# Altium schematic symbol library c3_SchLib.SchLib: 363 symbols (part 3 of 3)
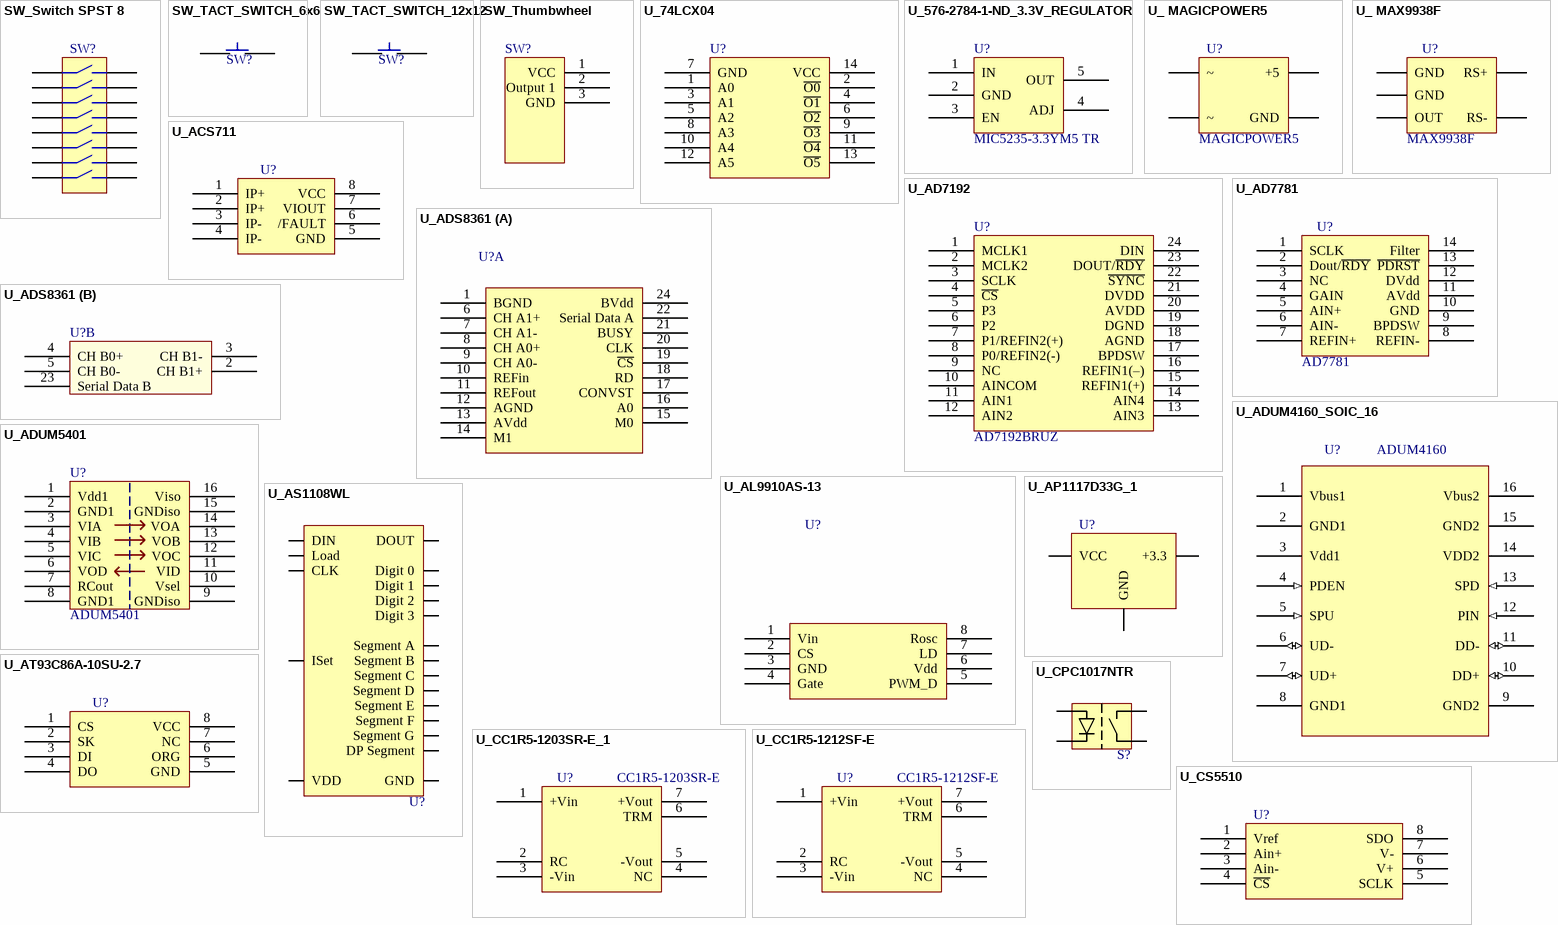
[diagram p13: symbols SW_Switch SPST 8 to U_CS5510]

## U_576-2784-1-ND_3.3V_REGULATOR
designator U?, comment Manufacturer PN: MIC5235-3.3YM5 TR  (hidden comment: IC REG LDO 150MA 3.3V SOT23-5)
Manufacturer: Micrel Inc; SVP Creator: Brittany Pentek; Package: SOT-23-5; Known Distributors: Digi-Key; Price: $1.02; HelpURL: http://search.digikey.com/scripts/DkSearch/dksus.dll?Detail&name=576-2784-1-ND; ComponentLink1URL: http://search.digikey.com/scripts/DkSearch/dksus.dll?Detail&name=576-2784-1-ND; ComponentLink1Description: Datasheet
footprint 576-2784-1-ND (SOT23, 5-Leads, Body 3.0x3.0mm (max), Pitch 0.95mm, IPC Medium Density)
pins: 1 IN, 2 GND, 3 EN, 4 ADJ, 5 OUT

## U_ MAGICPOWER5
designator U?  value MAGICPOWER5  (hidden comment: U_ MAGICPOWER5)
AC to 5V; Known Distributors: Shop; ComponentLink1Description: Datasheet
pins: 1 ~ (power), 2 ~ (power), 3 GND, 4 +5

## U_ MAX9938F
designator U?  value MAX9938F  (hidden comment: U_ MAX9938F)
IC AMP CURRENT SENSE SOT23-5; Manufacturer: Maxim; Manufacturer PN: MAX9938FEUK+T; Gain: 50; Package: SOT23; Known Distributors: Digikey; ComponentLink1Description: Datasheet
footprint SOT95P280X145-5N (SOT23, 5-Leads, Body 3.0x3.0mm (max), Pitch 0.95mm, IPC Medium Density)
pins: 1 GND, 2 GND, 3 OUT, 4 RS-, 5 RS+

## U_ACS711
designator U?, comment Lights board current sensor  (value not drawn)
SENSOR CURRENT 25A 3.3V 8-SOIC; Manufacturer: Allegro Microsystems Inc; Manufacturer PN: ACS711ELCTR-25AB-T; SVP Creator: Thomas Daede; Package: SOIC-8; ComponentLink1Description: Datasheet; ComponentLink1URL: http://www.allegromicro.com/en/Products/Part_Numbers/0711/0711.pdf; Price: 2.91
footprint SOIC127P600X175-8N (SOIC, 8-Leads, Body 4.9x3.9mm (max), Pitch 1.27mm, IPC Medium Density)
pins: 1 IP+, 2 IP+, 3 IP-, 4 IP-, 5 GND, 6 /FAULT, 7 VIOUT, 8 VCC

## U_AD7192
designator U?  Manufacturer PN: AD7192BRUZ  (hidden comment: *)
IC ADC 24BIT 2CH W/PGA 24-TSSOP; Manufacturer: Analog Devices
footprint TSOP65P640X120-24N (TSOP, 24-Leads, Body 7.9x4.5mm (max), Pitch 0.65mm, IPC Medium Density)
pins: 1 MCLK1, 2 MCLK2, 3 SCLK, 4 ~{CS}, 5 P3, 6 P2, 7 P1/REFIN2(+), 8 P0/REFIN2(-), 9 NC, 10 AINCOM, 11 AIN1, 12 AIN2, 13 AIN3, 14 AIN4, 15 REFIN1(+), 16 REFIN1(–), 17 BPDSW, 18 AGND, 19 DGND, 20 AVDD, 21 DVDD, 22 ~{SYNC}, 23 DOUT/~{RDY}, 24 DIN

## U_AD7781
designator U?, comment AD7781
IC ADC 20BIT 1CH LP SD 14SOIC; Manufacturer: Analog Devices; Manufacturer PN: AD7781BRZ; SVP Creator: Katie Moenkhaus; Package: SOIC-14; Known Distributors: Digikey; ComponentLink1Description: Datasheet; ComponentLink1URL: http://www.analog.com/static/imported-files/data_sheets/AD7781.pdf; Price: 5.35; Value: AD7781
footprint AD7781
pins: 1 SCLK, 2 Dout/~{RDY}, 3 NC, 4 GAIN, 5 AIN+, 6 AIN-, 7 REFIN+, 8 REFIN-, 9 BPDSW, 10 GND, 11 AVdd, 12 DVdd, 13 ~{PDRST}, 14 Filter

## U_ADS8361
designator U?
IC ADC DUAL 16BIT 500KSPS 24QSOP; Manufacturer: Texas Instruments; Manufacturer PN: ADS8361; SVP Creator: Katie Moenkhaus; Package: SSOP-24; ComponentLink1Description: Datasheet; ComponentLink1URL: http://www.ti.com/lit/ds/symlink/ads8361.pdf; Price: 0
footprint SOP63P600X175-24N (SOP, 24-Leads, Body 8.8x4.0mm (max), Pitch 0.63mm, IPC Medium Density)
part A pins: 1 BGND, 6 CH A1+, 7 CH A1-, 8 CH A0+, 9 CH A0-, 10 REFin, 11 REFout, 12 AGND, 13 AVdd, 14 M1, 15 M0, 16 A0, 17 CONVST, 18 RD, 19 ~{CS}, 20 CLK, 21 BUSY, 22 Serial Data A, 24 BVdd
part B pins: 2 CH B1+, 3 CH B1-, 4 CH B0+, 5 CH B0-, 23 Serial Data B

## U_ADUM4160_SOIC_16
designator U?, comment Manufacturer PN: ADUM4160  (hidden comment: Short Part Description)
IC USB ISOLATOR FULL/LOW 16SOIC; Manufacturer: Analog Devices; SVP Creator: Brett Paulsen; Package: 16 SOIC_W; Known Distributors: Digikey; Data sheet link: http://www.analog.com/static/imported-files/data_sheets/ADuM4160.pdf; Web SVN link: http://umnsvp.dyndns.org/websvn/filedetails.php?repname=centaurus3&path=%2Fdatasheets%2FUSB+Isolator%2FADUM4160.PDF; Price: 9.78
footprint SOIC_W 16 lead RW-16 (SOIC, 16-Leads, Body 10.5x7.6mm (max), Pitch 1.27mm, IPC Medium Density)
pins: 1 Vbus1 (power), 2 GND1, 3 Vdd1 (power), 4 PDEN (in), 5 SPU (in), 6 UD- (io), 7 UD+ (io), 8 GND1, 9 GND2, 10 DD+ (io), 11 DD- (io), 12 PIN (in), 13 SPD (in), 14 VDD2 (power), 15 GND2, 16 Vbus2 (power)

## U_ADUM5401
designator U?  value ADUM5401
IC ISOLATOR 4CH DCDC CONV 16SOIC; Manufacturer: Analog Devices; Manufacturer PN: ADUM5401CRWZ; SVP Creator: Katie Moenkhaus; Package: SOIC_W-16; Known Distributors: DigiKey; ComponentLink1URL: http://www.analog.com/static/imported-files/data_sheets/ADuM5401_5402_5403_5404.pdf; ComponentLink1Description: Datasheet
footprint SOIC_W-16
pins: 1 Vdd1, 2 GND1, 3 VIA, 4 VIB, 5 VIC, 6 VOD, 7 RCout, 8 GND1, 9 GNDiso, 10 Vsel, 11 VID, 12 VOC, 13 VOB, 14 VOA, 15 GNDiso, 16 Viso

## U_AL9910AS-13
designator U?, comment AL9910AS-13  (value not drawn)
IC LED DRVR HIGH BRIGHT SO8EP; Manufacturer: Diodes Inc; SVP Creator: Thomas Daede; Package: 8-SOIC; Manufacturer PN: AL9910AS-13; ComponentLink1Description: Datasheet; ComponentLink1URL: SVN Datasheet URL; Price: 1.90
footprint SOIC127P600X175-8N (SOIC, 8-Leads, Body 4.9x3.9mm (max), Pitch 1.27mm, IPC Medium Density)
pins: 1 Vin, 2 CS, 3 GND, 4 Gate, 5 PWM_D, 6 Vdd, 7 LD, 8 Rosc

## U_AP1117D33G_1
designator U?, comment MC7805BDTG  (value not drawn)
IC REG LDO BIPO 1A 3.3V TO252-3; Manufacturer: Diodes Inc; Manufacturer PN: AP1117D33G-13; SVP Creator: Thomas Daede; Known Distributors: Digikey; ComponentLink1Description: Datasheet; ComponentLink1URL: SVN Datasheet URL; Price: 0.63
footprint DPAK
pins: 1 +3.3, 2 VCC, 3 GND

## U_AS1108WL
designator U?, comment 7-Segment Driver  (value not drawn)
IC LED 4-DIGIT DRIVER 20-SOIC; Manufacturer: austriamicrosystems; Manufacturer PN: AS1108WL; SVP Creator: Matt Crane; Package: 20-SOIC; Known Distributors: Digikey; ComponentLink1Description: Datasheet; ComponentLink1URL: http://umnsvp.dyndns.org/svn/centaurus3/Hardware/datasheets/Driver Interface/AS1108_Datasheet_v2_12.pdf; Price: 5.18
footprint AS1108; pin to pad 4>4+7
pins: 1 DOUT, 2 DIN, 3 Digit 0, 4 GND, 5 Digit 1, 6 Digit 2, 8 Digit 3, 9 Load, 10 CLK, 11 Segment A, 12 Segment B, 13 Segment C, 14 Segment D, 15 ISet, 16 VDD, 17 Segment E, 18 Segment F, 19 Segment G, 20 DP Segment

## U_AT93C86A-10SU-2.7
designator U?, comment AT93C86A-10SU-2.7  (value not drawn)
IC EEPROM 16KBIT 2MHZ 8SOIC; Manufacturer: Atmel; Package: SOIC-8; Manufacturer PN: AT93C86A-10SU-2.7
footprint SOIC127P600X175-8N (SOIC, 8-Leads, Body 4.9x3.9mm (max), Pitch 1.27mm, IPC Medium Density)
pins: 1 CS, 2 SK, 3 DI, 4 DO, 5 GND, 6 ORG, 7 NC, 8 VCC

## U_CC1R5-1203SR-E_1
designator U?, comment Manufacturer PN: CC1R5-1203SR-E  (hidden comment: Short Part Description)
CONV DC/DC 1.5W SNG 12V 3.3V SMD; Manufacturer: TKD-Lambda; Package: TSOT23-6; Known Distributors: Digikey; ComponentLink1Description: Datasheet; ComponentLink1URL: SVN Datasheet URL; Price: 9.12
footprint CC1R5-1203SR-E
pins: 1 +Vin, 2 RC, 3 -Vin, 4 NC, 5 -Vout, 6 TRM, 7 +Vout

## U_CC1R5-1212SF-E
designator U?, comment Manufacturer PN: CC1R5-1212SF-E  (hidden comment: Short Part Description)
CONV DC/DC 1.5W SNGL 12V 12V PCB; Manufacturer: TKD-Lambda; SVP Creator: Thomas Daede; Known Distributors: Digikey; ComponentLink1Description: Datasheet; ComponentLink1URL: SVN Datasheet URL; Price: 11.26
footprint CC1R5-1212SF-E
pins: 1 +Vin, 2 RC, 3 -Vin, 4 NC, 5 -Vout, 6 TRM, 7 +Vout

## U_CPC1017NTR
designator S?, comment CPC1017NTR  (value not drawn)
PHOTOCPLR RELAY MOSFET-OUT 4-SOP; Manufacturer: Clare; SVP Creator: Jonathan Nutzmann; Package: 4-SOP; Known Distributors: Digikey; Manufacturer PN: CPC1017NTR; Price: 1.14; ComponentLink1Description: Datasheet
footprint CPC1017NTR (SOP, 4-Leads, Body 4.3x3.9mm (max), Pitch 2.54mm, IPC Medium Density)
pins: 1, 2, 3, 4

## U_CS5510
designator U?, comment CS5510  (value not drawn)
IC ADC 16BIT EXTERNAL OSC 8-SOIC; Manufacturer: Cirrus Logic Inc; Manufacturer PN: CS5510-ASZ; SVP Creator: Katie Moenkhaus; Package: 8-SOIC; ComponentLink1Description: Datasheet; ComponentLink1URL: http://www.cirrus.com/en/pubs/proDatasheet/CS5510-11-12-13_F4.pdf
footprint CS5510
pins: 1 Vref, 2 Ain+, 3 Ain-, 4 ~{CS}, 5 SCLK, 6 V+, 7 V-, 8 SDO

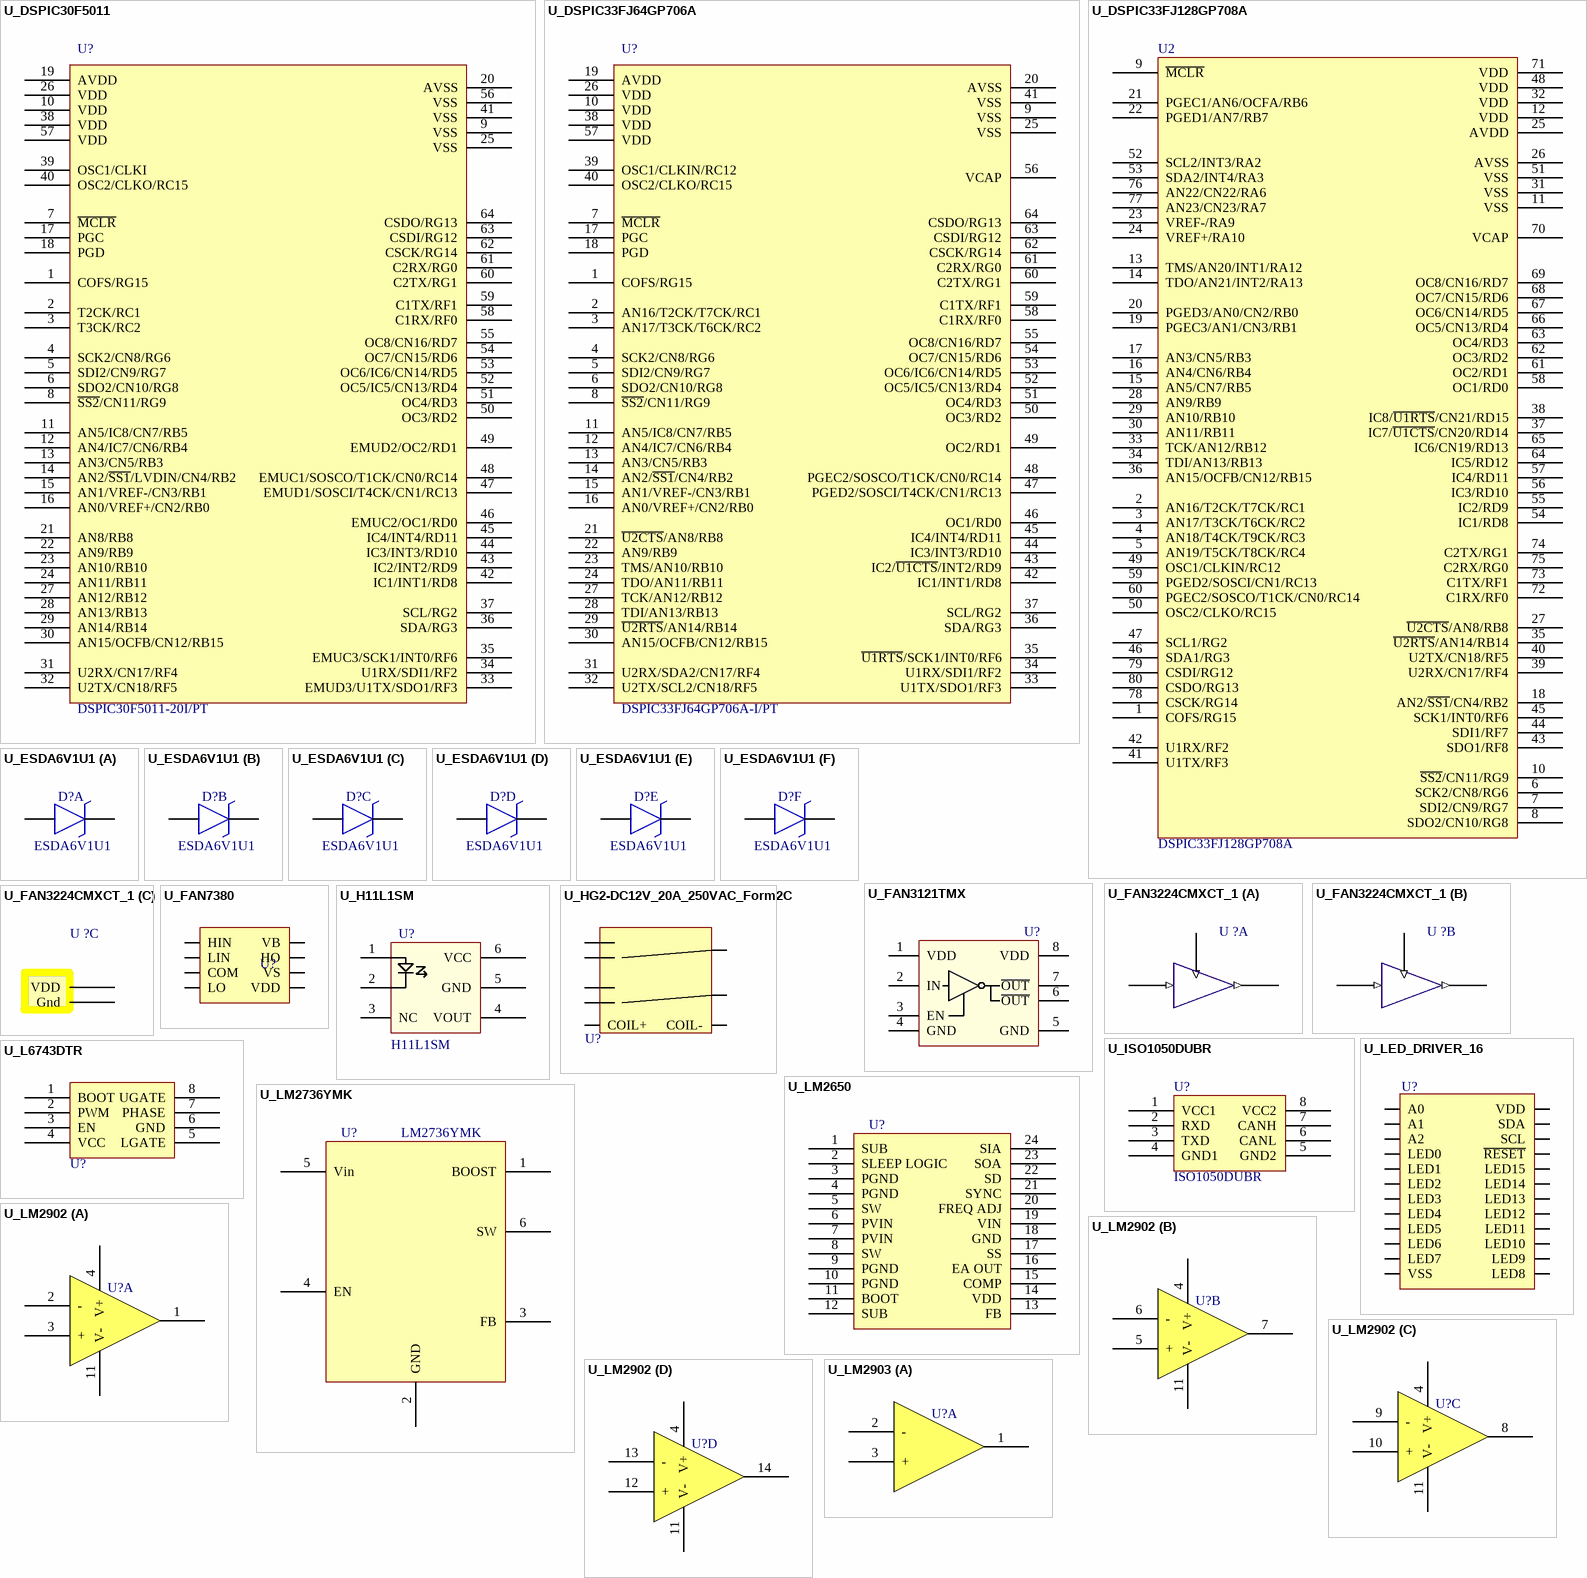
[diagram p8: symbols U_DSPIC30F5011 to U_LM2903]

## U_DSPIC30F5011
designator U?, comment Manufacturer PN: DSPIC30F5011-20I/PT  (hidden comment: DSPIC30F5011)
IC DSPIC MCU/DSP 66K 64TQFP; Manufacturer: Microchip; SVP Creator: Jonathan Nutzmann; Package: 64-TQFP; Known Distributors: Digikey; ComponentLink1Description: Datasheet; ComponentLink1URL: SVN Datasheet URL; Price: 8.74
footprint TSQFP50P1200X1200X120-64N (TSQFP, 64-Leads, Body 12.0x12.0mm (max), Pitch 0.50mm, IPC Medium Density)
pins: 1 COFS/RG15, 2 T2CK/RC1, 3 T3CK/RC2, 4 SCK2/CN8/RG6, 5 SDI2/CN9/RG7, 6 SDO2/CN10/RG8, 7 ~{MCLR}, 8 ~{SS2}/CN11/RG9, 9 VSS, 10 VDD, 11 AN5/IC8/CN7/RB5, 12 AN4/IC7/CN6/RB4, 13 AN3/CN5/RB3, 14 AN2/~{SS1}/LVDIN/CN4/RB2, 15 AN1/VREF-/CN3/RB1, 16 AN0/VREF+/CN2/RB0, 17 PGC, 18 PGD, 19 AVDD, 20 AVSS, 21 AN8/RB8, 22 AN9/RB9, 23 AN10/RB10, 24 AN11/RB11, 25 VSS, 26 VDD, 27 AN12/RB12, 28 AN13/RB13, 29 AN14/RB14, 30 AN15/OCFB/CN12/RB15, 31 U2RX/CN17/RF4, 32 U2TX/CN18/RF5, 33 EMUD3/U1TX/SDO1/RF3, 34 U1RX/SDI1/RF2, 35 EMUC3/SCK1/INT0/RF6, 36 SDA/RG3, 37 SCL/RG2, 38 VDD, 39 OSC1/CLKI, 40 OSC2/CLKO/RC15, 41 VSS, 42 IC1/INT1/RD8, 43 IC2/INT2/RD9, 44 IC3/INT3/RD10, 45 IC4/INT4/RD11, 46 EMUC2/OC1/RD0, 47 EMUD1/SOSCI/T4CK/CN1/RC13, 48 EMUC1/SOSCO/T1CK/CN0/RC14, 49 EMUD2/OC2/RD1, 50 OC3/RD2, 51 OC4/RD3, 52 OC5/IC5/CN13/RD4, 53 OC6/IC6/CN14/RD5, 54 OC7/CN15/RD6, 55 OC8/CN16/RD7, 56 VSS, 57 VDD, 58 C1RX/RF0, 59 C1TX/RF1, 60 C2TX/RG1, 61 C2RX/RG0, 62 CSCK/RG14, 63 CSDI/RG12, 64 CSDO/RG13

## U_DSPIC33FJ64GP706A
designator U?, comment Manufacturer PN: DSPIC33FJ64GP706A-I/PT  (hidden comment: DSPIC33FJ64GP706A)
IC DSPIC MCU/DSP 64K 64-TQFP; Manufacturer: Microchip; SVP Creator: Jonathan Nutzmann; Package: 64-TQFP; Known Distributors: Digikey; ComponentLink1Description: Datasheet; ComponentLink1URL: SVN Datasheet URL; Price: 7.26
footprint TSQFP50P1200X1200X120-64N (TSQFP, 64-Leads, Body 12.0x12.0mm (max), Pitch 0.50mm, IPC Medium Density)
pins: 1 COFS/RG15, 2 AN16/T2CK/T7CK/RC1, 3 AN17/T3CK/T6CK/RC2, 4 SCK2/CN8/RG6, 5 SDI2/CN9/RG7, 6 SDO2/CN10/RG8, 7 ~{MCLR}, 8 ~{SS2}/CN11/RG9, 9 VSS, 10 VDD, 11 AN5/IC8/CN7/RB5, 12 AN4/IC7/CN6/RB4, 13 AN3/CN5/RB3, 14 AN2/~{SS1}/CN4/RB2, 15 AN1/VREF-/CN3/RB1, 16 AN0/VREF+/CN2/RB0, 17 PGC, 18 PGD, 19 AVDD, 20 AVSS, 21 ~{U2CTS}/AN8/RB8, 22 AN9/RB9, 23 TMS/AN10/RB10, 24 TDO/AN11/RB11, 25 VSS, 26 VDD, 27 TCK/AN12/RB12, 28 TDI/AN13/RB13, 29 ~{U2RTS}/AN14/RB14, 30 AN15/OCFB/CN12/RB15, 31 U2RX/SDA2/CN17/RF4, 32 U2TX/SCL2/CN18/RF5, 33 U1TX/SDO1/RF3, 34 U1RX/SDI1/RF2, 35 ~{U1RTS}/SCK1/INT0/RF6, 36 SDA/RG3, 37 SCL/RG2, 38 VDD, 39 OSC1/CLKIN/RC12, 40 OSC2/CLKO/RC15, 41 VSS, 42 IC1/INT1/RD8, 43 IC2/~{U1CTS}/INT2/RD9, 44 IC3/INT3/RD10, 45 IC4/INT4/RD11, 46 OC1/RD0, 47 PGED2/SOSCI/T4CK/CN1/RC13, 48 PGEC2/SOSCO/T1CK/CN0/RC14, 49 OC2/RD1, 50 OC3/RD2, 51 OC4/RD3, 52 OC5/IC5/CN13/RD4, 53 OC6/IC6/CN14/RD5, 54 OC7/CN15/RD6, 55 OC8/CN16/RD7, 56 VCAP, 57 VDD, 58 C1RX/RF0, 59 C1TX/RF1, 60 C2TX/RG1, 61 C2RX/RG0, 62 CSCK/RG14, 63 CSDI/RG12, 64 CSDO/RG13

## U_DSPIC33FJ128GP708A
designator U2, comment DSPIC33FJ128GP708A
IC DSPIC MCU/DSP 128K 80-TQFP; Manufacturer: Microchip; SVP Creator: Jonathan Nutzmann; Package: 80-TQFP; Known Distributors: Digikey; ComponentLink1Description: Datasheet; ComponentLink1URL: SVN Datasheet URL
footprint dspic33-tqfp80 (TSQFP, 80-Leads, Body 14.0x14.0mm (max), Pitch 0.50mm, IPC Medium Density)
pins: 1 COFS/RG15, 2 AN16/T2CK/T7CK/RC1, 3 AN17/T3CK/T6CK/RC2, 4 AN18/T4CK/T9CK/RC3, 5 AN19/T5CK/T8CK/RC4, 6 SCK2/CN8/RG6, 7 SDI2/CN9/RG7, 8 SDO2/CN10/RG8, 9 ~{MCLR}, 10 ~{SS2}/CN11/RG9, 11 VSS, 12 VDD, 13 TMS/AN20/INT1/RA12, 14 TDO/AN21/INT2/RA13, 15 AN5/CN7/RB5, 16 AN4/CN6/RB4, 17 AN3/CN5/RB3, 18 AN2/~{SS1}/CN4/RB2, 19 PGEC3/AN1/CN3/RB1, 20 PGED3/AN0/CN2/RB0, 21 PGEC1/AN6/OCFA/RB6, 22 PGED1/AN7/RB7, 23 VREF-/RA9, 24 VREF+/RA10, 25 AVDD, 26 AVSS, 27 ~{U2CTS}/AN8/RB8, 28 AN9/RB9, 29 AN10/RB10, 30 AN11/RB11, 31 VSS, 32 VDD, 33 TCK/AN12/RB12, 34 TDI/AN13/RB13, 35 ~{U2RTS}/AN14/RB14, 36 AN15/OCFB/CN12/RB15, 37 IC7/~{U1CTS}/CN20/RD14, 38 IC8/~{U1RTS}/CN21/RD15, 39 U2RX/CN17/RF4, 40 U2TX/CN18/RF5, 41 U1TX/RF3, 42 U1RX/RF2, 43 SDO1/RF8, 44 SDI1/RF7, 45 SCK1/INT0/RF6, 46 SDA1/RG3, 47 SCL1/RG2, 48 VDD, 49 OSC1/CLKIN/RC12, 50 OSC2/CLKO/RC15, 51 VSS, 52 SCL2/INT3/RA2, 53 SDA2/INT4/RA3, 54 IC1/RD8, 55 IC2/RD9, 56 IC3/RD10, 57 IC4/RD11, 58 OC1/RD0, 59 PGED2/SOSCI/CN1/RC13, 60 PGEC2/SOSCO/T1CK/CN0/RC14, 61 OC2/RD1, 62 OC3/RD2, 63 OC4/RD3, 64 IC5/RD12, 65 IC6/CN19/RD13, 66 OC5/CN13/RD4, 67 OC6/CN14/RD5, 68 OC7/CN15/RD6, 69 OC8/CN16/RD7, 70 VCAP, 71 VDD, 72 C1RX/RF0, 73 C1TX/RF1, 74 C2TX/RG1, 75 C2RX/RG0, 76 AN22/CN22/RA6, 77 AN23/CN23/RA7, 78 CSCK/RG14, 79 CSDI/RG12, 80 CSDO/RG13

## U_ESDA6V1U1
designator D?  Part Number: ESDA6V1U1  (hidden comment: U_ESDA6V1U1)
IC TVS ARRAY ESD UNIDIR 8-SOIC
footprint ESDA6V1U1 (SOP, 8-Leads, Body 5.0x4.0mm (max), Pitch 1.27mm, IPC Medium Density)
part A pins: 1, 6
part B pins: 2, 6
part C pins: 3, 6
part D pins: 4, 6
part E pins: 5, 6
part F pins: 6, 8

## U_FAN3121TMX
designator U?, comment FAN3121TMX  (value not drawn)
IC GATE DVR SGL 9A HS INV 8-SOIC; Manufacturer: Fairchild; SVP Creator: Jonathan Nutzmann; Package: 8 SOIC; Known Distributors: Digikey; Manufacturer PN: FAN3121TMX; Price: 2.38; ComponentLink1Description: Datasheet
footprint SOIC127P600X175-8N (SOIC, 8-Leads, Body 4.9x3.9mm (max), Pitch 1.27mm, IPC Medium Density)
pins: 1 VDD, 2 IN, 3 EN, 4 GND, 5 GND, 6 ~{OUT}, 7 ~{OUT}, 8 VDD

## U_FAN3224CMXCT_1
designator U ?, comment U_FAN3224CMXCT  (value not drawn)
IC GATE DVR LOSIDE DUAL 4A 8SOIC; Manufacturer: Fairchild; Manufacturer PN: FAN3224CMXCT-ND; SVP Creator: Evan Sundry; Package: 8 SOIC; Known Distributors: Digikey; Price: 1.93; HelpURL: http://umnsvp.dyndns.org/svn/centaurus2/datasheets/; ComponentLink1URL: http://umnsvp.dyndns.org/svn/centaurus2/datasheets/; ComponentLink1Description: Datasheet
footprint SOIC127P600X175-8N (NIS5112) (SOIC, 8-Leads, Body 5.0x4.0mm (max), Pitch 1.27mm, IPC Medium Density)
part A pins: 1 EN A (in), 2 IN A (in), 7 Out A (out)
part B pins: 4 IN B (in), 5 Out b (out), 8 EN B (in)
part C pins: 3 Gnd (power), 6 VDD (power)

## U_FAN7380
designator U?, comment Gate Driver  (value not drawn)
IC DRIVER GATE HALF BRIDGE 8-SOP; Manufacturer: Fairchild Semiconductor; Manufacturer PN: FAN7380; SVP Creator: Chad Furey; Package: 8-SOIC; Known Distributors: Digikey; ComponentLink1Description: Datasheet; ComponentLink1URL: http://www.fairchildsemi.com/ds/FA%2FFAN7380.pdf; HelpURL: http://www.fairchildsemi.com/ds/FA%2FFAN7380.pdf; Price: 1.88
footprint FAN7380
pins: 1 LIN, 2 HIN, 3 VDD, 4 COM, 5 LO, 6 VS, 7 HO, 8 VB

## U_H11L1SM
designator U?, comment H11L1SM
OPTOCOUPLER LOGIC OUT 6-SMD; SVP Creator: Jonathan Nutzmann; Datasheet: http://www.fairchildsemi.com/ds/H1/H11L1-M.pdf
footprint H11L1SM
pins: 1 ANODE, 2 CATHODE, 3 NC, 4 VOUT, 5 GND, 6 VCC

## U_HG2-DC12V_20A_250VAC_Form2C
designator U?, comment Short Part Description  (value not drawn)
HG2-DC12V 20A POWER RELAY; Manufacturer: Panasonic; SVP Creator: Brittany Pentek; Package: 5-PIN; Known Distributors: Ax-Man; Manufacturer PN: HG2-DC12V; ComponentLink1Description: http://pewa.panasonic.com/assets/pcsd/catalog/hg-catalog.pdf; ComponentLink1URL: SVN Datasheet URL; HelpURL: http://www.onlinecomponents.com/panasonic-ew-aromat_hg2-dc12v-f.html?p=10555595; Price: $5.45
pins: 1 1NC, 2 1NO, 3 2NC, 4 2NO, 5 1OUT, 6 2OUT, 7 COIL+, 8 COIL-

## U_ISO1050DUBR
designator U?  Manufacturer PN: ISO1050DUBR  (hidden comment: U_ISO1050DUBR)
IC TXRX CAN 5V 8SOP; Manufacturer: Texas Insturments; SVP Creator: Jonathan Nutzmann; Package: 8SOP; ComponentLink1Description: Datasheet
footprint 8SOP
pins: 1 VCC1, 2 RXD, 3 TXD, 4 GND1, 5 GND2, 6 CANL, 7 CANH, 8 VCC2

## U_L6743DTR
designator U?, comment IC MOSFET DRIVER DUAL 8SOIC  (value not drawn)
Manufacturer: STMicroelectronics; Manufacturer PN: L6743DTR; SVP Creator: Thomas Daede; Package: SOIC-8; Known Distributors: 497-8496-1-ND; ComponentLink1Description: Datasheet; ComponentLink1URL: SVN Datasheet URL; Price: 1.8
footprint SOIC127P600X175-8N (SOIC, 8-Leads, Body 4.9x3.9mm (max), Pitch 1.27mm, IPC Medium Density)
pins: 1 BOOT, 2 PWM, 3 EN, 4 VCC, 5 LGATE, 6 GND, 7 PHASE, 8 UGATE

## U_LED_DRIVER_16
designator U?, comment 16 LED Driver  (value not drawn)
IC LED DRIVER BLINKER 24-SOIC; Manufacturer: NXP Semiconductors; Manufacturer PN: PCA9552D,112; SVP Creator: Matt Crane; Package: 24-SOIC (0.295", 7.50mm Width); Known Distributors: Digikey; ComponentLink1Description: Datasheet; ComponentLink1URL: http://www.nxp.com/documents/data_sheet/PCA9552.pdf; Price: 2.67
footprint SOIC127P1030X265-24N (SOIC, 24-Leads, Body 15.6x7.6mm (max), Pitch 1.27mm, IPC Medium Density)
pins: 1 A0, 2 A1, 3 A2, 4 LED0, 5 LED1, 6 LED2, 7 LED3, 8 LED4, 9 LED5, 10 LED6, 11 LED7, 12 VSS, 13 LED8, 14 LED9, 15 LED10, 16 LED11, 17 LED12, 18 LED13, 19 LED14, 20 LED15, 21 ~{RESET}, 22 SCL, 23 SDA, 24 VDD

## U_LM2650
designator U?, comment LM2650 DC/DC Converter  (value not drawn)
IC CONVERTER SYNCH DC/DC 24-SOIC; Manufacturer: National Semiconductor; SVP Creator: Jonathan Nutzmann; Package: SOIC-24; Manufacturer PN: LM2650; ComponentLink1Description: Datasheet; ComponentLink1URL: SVN Datasheet URL; Price: 0
footprint SOIC127P1030X265-24N (SOIC, 24-Leads, Body 15.6x7.6mm (max), Pitch 1.27mm, IPC Medium Density)
pins: 1 SUB, 2 SLEEP LOGIC, 3 PGND, 4 PGND, 5 SW, 6 PVIN, 7 PVIN, 8 SW, 9 PGND, 10 PGND, 11 BOOT, 12 SUB, 13 FB, 14 VDD, 15 COMP, 16 EA OUT, 17 SS, 18 GND, 19 VIN, 20 FREQ ADJ, 21 SYNC, 22 SD, 23 SOA, 24 SIA

## U_LM2736YMK
designator U?, comment Manufacturer PN: LM2736YMK  (hidden comment: Short Part Description)
IC REG PWM STPDWN 750 mA; Manufacturer: National Semiconductor (TI?); SVP Creator: Brett Paulsen; SVP Reviewer 1: Arlo Siemsen; Package: TSOT23-6; Known Distributors: Digikey; ComponentLink1Description: Datasheet; ComponentLink1URL: SVN Datasheet URL; Price: FREE
footprint TSOT95P285X100-6M (TSOT23, 6-Leads, Body 3.1x2.8mm (max), Pitch 0.95mm, IPC Low Density)
pins: 1 BOOST, 2 GND, 3 FB, 4 EN, 5 Vin, 6 SW

## U_LM2902
designator U?  (value not drawn)
IC OP AMP QUAD LOW POWER 14-SOIC; Manufacturer: ST Microelectronics; Manufacturer PN: LM2902DT; SVP Creator: sam kelley / Thomas Daede; Package: 14-SOIC; Known Distributors: digikey; Price: $1.20; HelpURL: http://umnsvp.dyndns.org/svn/centaurus2/datasheets/Telemetry/LM2902.pdf; ComponentLink1URL: http://umnsvp.dyndns.org/svn/centaurus2/datasheets/Telemetry/LM2902.pdf; ComponentLink1Description: Datasheet
footprint SOIC127P600X175-14N (SOIC, 14-Leads, Body 8.8x4.0mm (max), Pitch 1.27mm, IPC Medium Density)
part A pins: 1, 2 -, 3 +, 4 V+, 11 V-
part B pins: 4 V+, 5 +, 6 -, 7, 11 V-
part C pins: 4 V+, 8, 9 -, 10 +, 11 V-
part D pins: 4 V+, 11 V-, 12 +, 13 -, 14

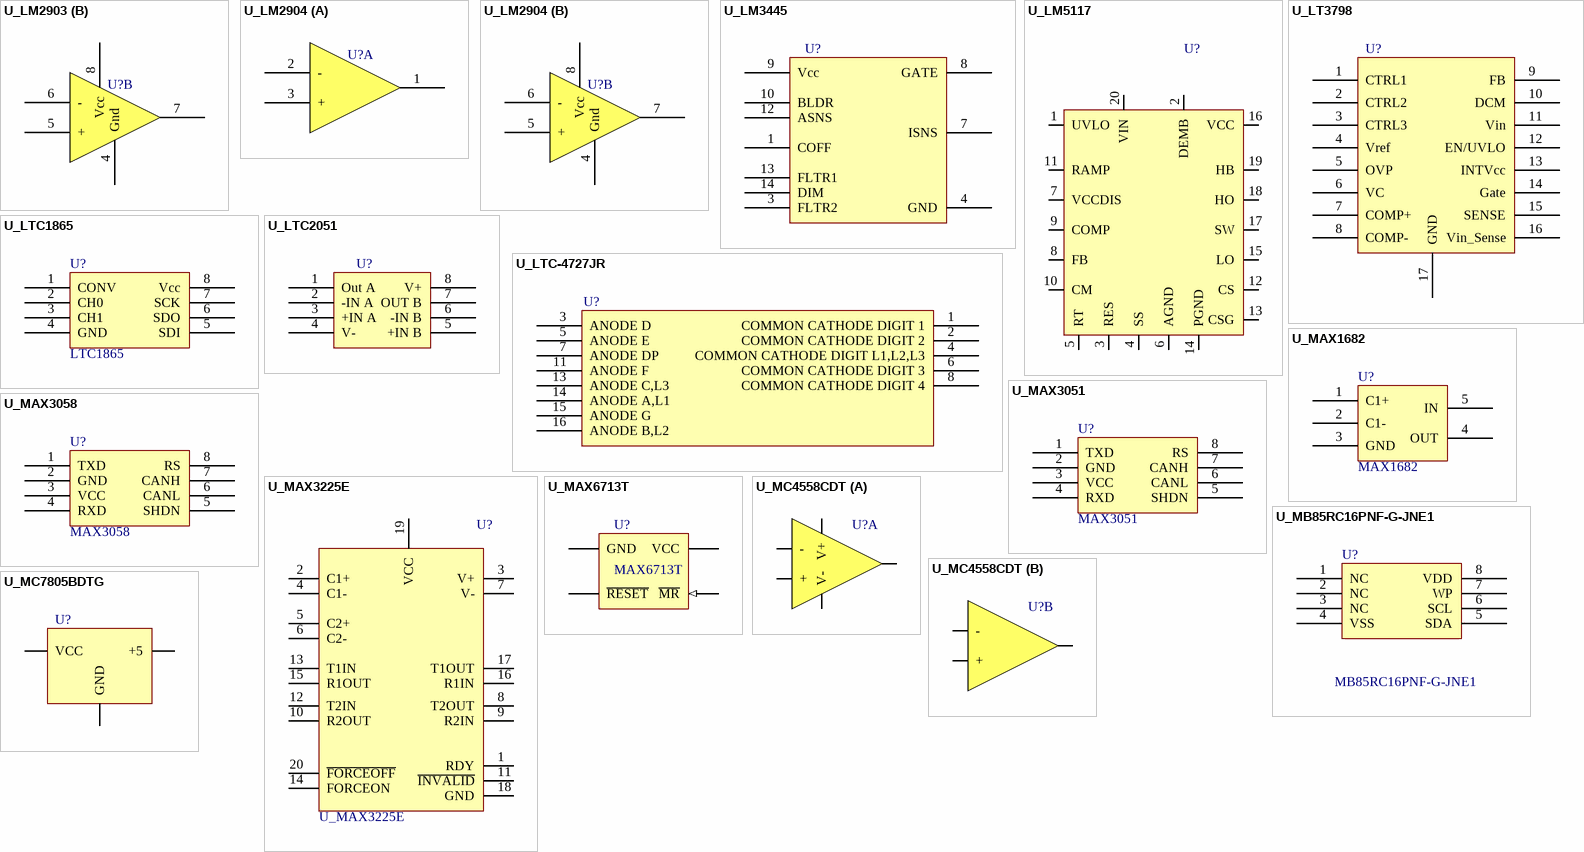
[diagram p9: symbols U_LM2903 to U_MC7805BDTG]

## U_LM2903
designator U?  (value not drawn)
IC COMPARATOR DUAL DIFF 8-SOP; Manufacturer: Fairchild Semiconductor; Manufacturer PN: LM2903MX; SVP Creator: Thomas Daede; Package: 8-SOIC; Known Distributors: digikey; Price: 0.56; ComponentLink1Description: Datasheet
footprint SOIC127P600X175-8N (SOIC, 8-Leads, Body 4.9x3.9mm (max), Pitch 1.27mm, IPC Medium Density)
part A pins: 1, 2 -, 3 +
part B pins: 4 Gnd, 5 +, 6 -, 7, 8 Vcc

## U_LM2904
designator U?  (value not drawn)
IC OPAMP DUAL -40-85 C 8-SOIC; Manufacturer: Fairchild Semiconductor; Manufacturer PN: LM2904M; SVP Creator: Thomas Daede; Package: 8-SOIC; Known Distributors: digikey; Price: 0.45; ComponentLink1Description: Datasheet
footprint SOIC127P600X175-8N (SOIC, 8-Leads, Body 4.9x3.9mm (max), Pitch 1.27mm, IPC Medium Density)
part A pins: 1, 2 -, 3 +
part B pins: 4 Gnd, 5 +, 6 -, 7, 8 Vcc

## U_LM3445
designator U?, comment LM3445  (value not drawn)
IC LED DRIVER TRIAC DIMM 14SOIC; Manufacturer: National Semiconductor; SVP Creator: Thomas Daede; Package: SOIC-14; Manufacturer PN: LM3445; ComponentLink1Description: Datasheet; ComponentLink1URL: SVN Datasheet URL; Price: 3.84
footprint SOIC127P600X175-14N (SOIC, 14-Leads, Body 8.8x4.0mm (max), Pitch 1.27mm, IPC Medium Density)
pins: 1 COFF, 3 FLTR2, 4 GND, 7 ISNS, 8 GATE, 9 Vcc, 10 BLDR, 12 ASNS, 13 FLTR1, 14 DIM

## U_LM5117
designator U?  (value not drawn)
IC PWM BUCK CM 20TSSOP; Manufacturer: National Semiconductor; Manufacturer PN: LM5117; SVP Creator: Matt Rogge; Current Rating: 12A; ComponentLink1Description: datasheet; Known Distributors: Digikey; Package: 20-TSSOP; Price: 5.71
footprint LM5117
pins: 1 UVLO, 2 DEMB, 3 RES, 4 SS, 5 RT, 6 AGND, 7 VCCDIS, 8 FB, 9 COMP, 10 CM, 11 RAMP, 12 CS, 13 CSG, 14 PGND, 15 LO, 16 VCC, 17 SW, 18 HO, 19 HB, 20 VIN

## U_LT3798
designator U?, comment LT3798  (value not drawn)
Isolated No Opto-Coupler Flyback Controller with Active PFC; Manufacturer: Linear; SVP Creator: Chad Furey; Package: MSOP-16; Known Distributors: ??; Manufacturer PN: LT3798; ComponentLink1Description: Datasheet; ComponentLink1URL: http://cds.linear.com/docs/Datasheet/3798p.pdf; Price: NA
footprint MSOP_16Lead_0.5mm_pitch (TSSOP, 16-Leads, Body 4.1x3.1mm (max), Pitch 0.50mm, IPC Medium Density)
pins: 1 CTRL1, 2 CTRL2, 3 CTRL3, 4 Vref, 5 OVP, 6 VC, 7 COMP+, 8 COMP-, 9 FB, 10 DCM, 11 Vin, 12 EN/UVLO, 13 INTVcc, 14 Gate, 15 SENSE, 16 Vin_Sense, 17 GND

## U_LTC1865
designator U?  value LTC1865
IC A/D CONV 2CH 16BIT 8-SOIC; Manufacturer: Linear Technology; Manufacturer PN: LTC1865CS8#PBF; SVP Creator: Katie Moenkhaus; Package: SOIC-8; Known Distributors: DigiKey; ComponentLink1Description: Datasheet
footprint SOIC127P600X175-8N (SOIC, 8-Leads, Body 4.9x3.9mm (max), Pitch 1.27mm, IPC Medium Density)
pins: 1 CONV, 2 CH0, 3 CH1, 4 GND, 5 SDI, 6 SDO, 7 SCK, 8 Vcc

## U_LTC2051
designator U?
IC OP-AMP ZERO-DRIFT DUAL 8-MSOP; Manufacturer: Linear Technology; Manufacturer PN: LTC2051HMS8#PBF; SVP Creator: Katie Moenkhaus; Package: MSOP-8; ComponentLink1Description: Datasheet; ComponentLink1URL: http://cds.linear.com/docs/Datasheet/20512fd.pdf
footprint SOP-8
pins: 1 Out A, 2 -IN A, 3 +IN A, 4 V-, 5 +IN B, 6 -IN B, 7 OUT B, 8 V+

## U_LTC-4727JR
designator U?, comment 4 Digit Seven Segment Display  (value not drawn)
LED 7-SEG .4" 4DGT SUPER RED CC - LTC-4727JR; Manufacturer: LITE-ON; SVP Creator: Graham Smith; Manufacturer PN: LTC-4727JR; Known Distributors: Digikey; Price: 3.96; ComponentLink1URL: centaurus3\Hardware\datasheets\F1 Steering Wheel\LTC-4727JR.pdf; ComponentLink1Description: Datasheet; Package: 16-DIP
footprint 16-DIP
pins: 1 COMMON CATHODE DIGIT 1, 2 COMMON CATHODE DIGIT 2, 3 ANODE D, 4 COMMON CATHODE DIGIT L1,L2,L3, 5 ANODE E, 6 COMMON CATHODE DIGIT 3, 7 ANODE DP, 8 COMMON CATHODE DIGIT 4, 11 ANODE F, 13 ANODE C,L3, 14 ANODE A,L1, 15 ANODE G, 16 ANODE B,L2

## U_MAX1682
designator U?, comment Manufacturer PN: MAX1682  (hidden comment: Switched-Capacitor Voltage Doublers)
Manufacturer: Maxim; SVP Creator: Jonathan Nutzmann; Package: SOT-23-5; Known Distributors: ?; Price: ?; ComponentLink1URL: http://datasheets.maxim-ic.com/en/ds/MAX1682-MAX1683.pdf; ComponentLink1Description: Datasheet
footprint 576-2784-1-ND (SOT23, 5-Leads, Body 3.0x3.0mm (max), Pitch 0.95mm, IPC Medium Density)
pins: 1 C1+, 2 C1-, 3 GND, 4 OUT, 5 IN

## U_MAX3051
designator U?  value MAX3051
IC TXRX CAN 1MBPS 8-SOIC 3.3V; Manufacturer: Maxim; Manufacturer PN: MAX3051ESA+; SVP Creator: Jonathan Nutzmann; Package: SOIC-8; Known Distributors: DigiKey; ComponentLink1Description: Datasheet
footprint SOIC127P600X175-8N (SOIC, 8-Leads, Body 4.9x3.9mm (max), Pitch 1.27mm, IPC Medium Density)
pins: 1 TXD, 2 GND, 3 VCC, 4 RXD, 5 SHDN, 6 CANL, 7 CANH, 8 RS

## U_MAX3058
designator U?  value MAX3058
IC TXRX CAN 1MBPS 8-SOIC 5V; Manufacturer: Maxim; Manufacturer PN: MAX3058ASA+; SVP Creator: Jonathan Nutzmann; Package: SOIC-8; Known Distributors: DigiKey; ComponentLink1Description: Datasheet
footprint SOIC127P600X175-8N (SOIC, 8-Leads, Body 4.9x3.9mm (max), Pitch 1.27mm, IPC Medium Density)
pins: 1 TXD, 2 GND, 3 VCC, 4 RXD, 5 SHDN, 6 CANL, 7 CANH, 8 RS

## U_MAX3225E
designator U?
IC TXRX RS-232 W/SHTDWN 20-SSOP; Manufacturer: Maxim; Manufacturer PN: MAX3225ECAP+T-ND; SVP Creator: Mark Newcomb; ComponentLink1Description: Datasheet; ComponentLink1URL: http://umnsvp.dyndns.org/svn/centaurus3/Hardware/datasheets/Telemetry/MAX3225.pdf; HelpURL: http://umnsvp.dyndns.org/svn/centaurus3/Hardware/datasheets/Telemetry/MAX3225.pdf; Known Distributors: Digikey; Package: 16-SSOP; SVP Reviewer 1: *; SVP Reviewer 2: *; Value: *
footprint SSOP20
pins: 1 RDY, 2 C1+, 3 V+, 4 C1-, 5 C2+, 6 C2-, 7 V-, 8 T2OUT, 9 R2IN, 10 R2OUT, 11 ~{INVALID}, 12 T2IN, 13 T1IN, 14 FORCEON, 15 R1OUT, 16 R1IN, 17 T1OUT, 18 GND, 19 VCC, 20 ~{FORCEOFF}

## U_MAX6713T
designator U?  value MAX6713T  (hidden comment: U_MAX6713T)
MAX6713T Reset controller; Manufacturer: Maxim; Manufacturer PN: MAX6713TEXS+T; SVP Creator: Nate Bolyard; Package: SC70 - check this; Known Distributors: Digikey; ComponentLink1Description: Datasheet; ComponentLink1URL: http://umnsvp.dyndns.org/svn/centaurus2/datasheets/Common Board/MAX6711L-MAX6713Z.pdf; HelpURL: http://umnsvp.dyndns.org/svn/centaurus2/datasheets/Common Board/MAX6711L-MAX6713Z.pdf
footprint SC70
pins: 1 GND (power), 2 ~{RESET} (oc), 3 ~{MR} (in), 4 VCC (power)

## U_MB85RC16PNF-G-JNE1
designator U?  Manufacturer PN: MB85RC16PNF-G-JNE1
IC FRAM 16KBIT 1MHZ 8SOP; Manufacturer: Fujitsu Semiconductor America Inc; Package: SOIC-8; Known Distributors: DigiKey; ComponentLink1Description: Datasheet
footprint SOIC127P600X175-8N (SOIC, 8-Leads, Body 4.9x3.9mm (max), Pitch 1.27mm, IPC Medium Density)
pins: 1 NC, 2 NC, 3 NC, 4 VSS, 5 SDA, 6 SCL, 7 WP, 8 VDD

## U_MC4558CDT
designator U?  (value not drawn)
IC COMPARATOR DUAL DIFF 8-SOP; Manufacturer: ST; SVP Creator: Jonathan Nutzmann; Package: 8-SOIC; Known Distributors: digikey; Manufacturer PN: MC4558CDT; Price: .69; ComponentLink1URL: http://www.st.com/internet/com/TECHNICAL_RESOURCES/TECHNICAL_LITERATURE/DATASHEET/CD00000478.pdf; ComponentLink1Description: Datasheet
footprint SOIC127P600X175-8N (SOIC, 8-Leads, Body 4.9x3.9mm (max), Pitch 1.27mm, IPC Medium Density)
part A pins: 1 Vo, 2 -, 3 +, 4 V-, 8 V+
part B pins: 5 +, 6 -, 7 Vo

## U_MC7805BDTG
designator U?, comment MC7805BDTG  (value not drawn)
IC REG POS VOLT 1A 5V DPAK; Manufacturer: ON Semiconductor; SVP Creator: Jonathan Nutzmann; Known Distributors: Digikey; Manufacturer PN: MC7805BDTG; ComponentLink1Description: Datasheet; ComponentLink1URL: SVN Datasheet URL
footprint DPAK
pins: 1 GND, 2 +5, 3 VCC

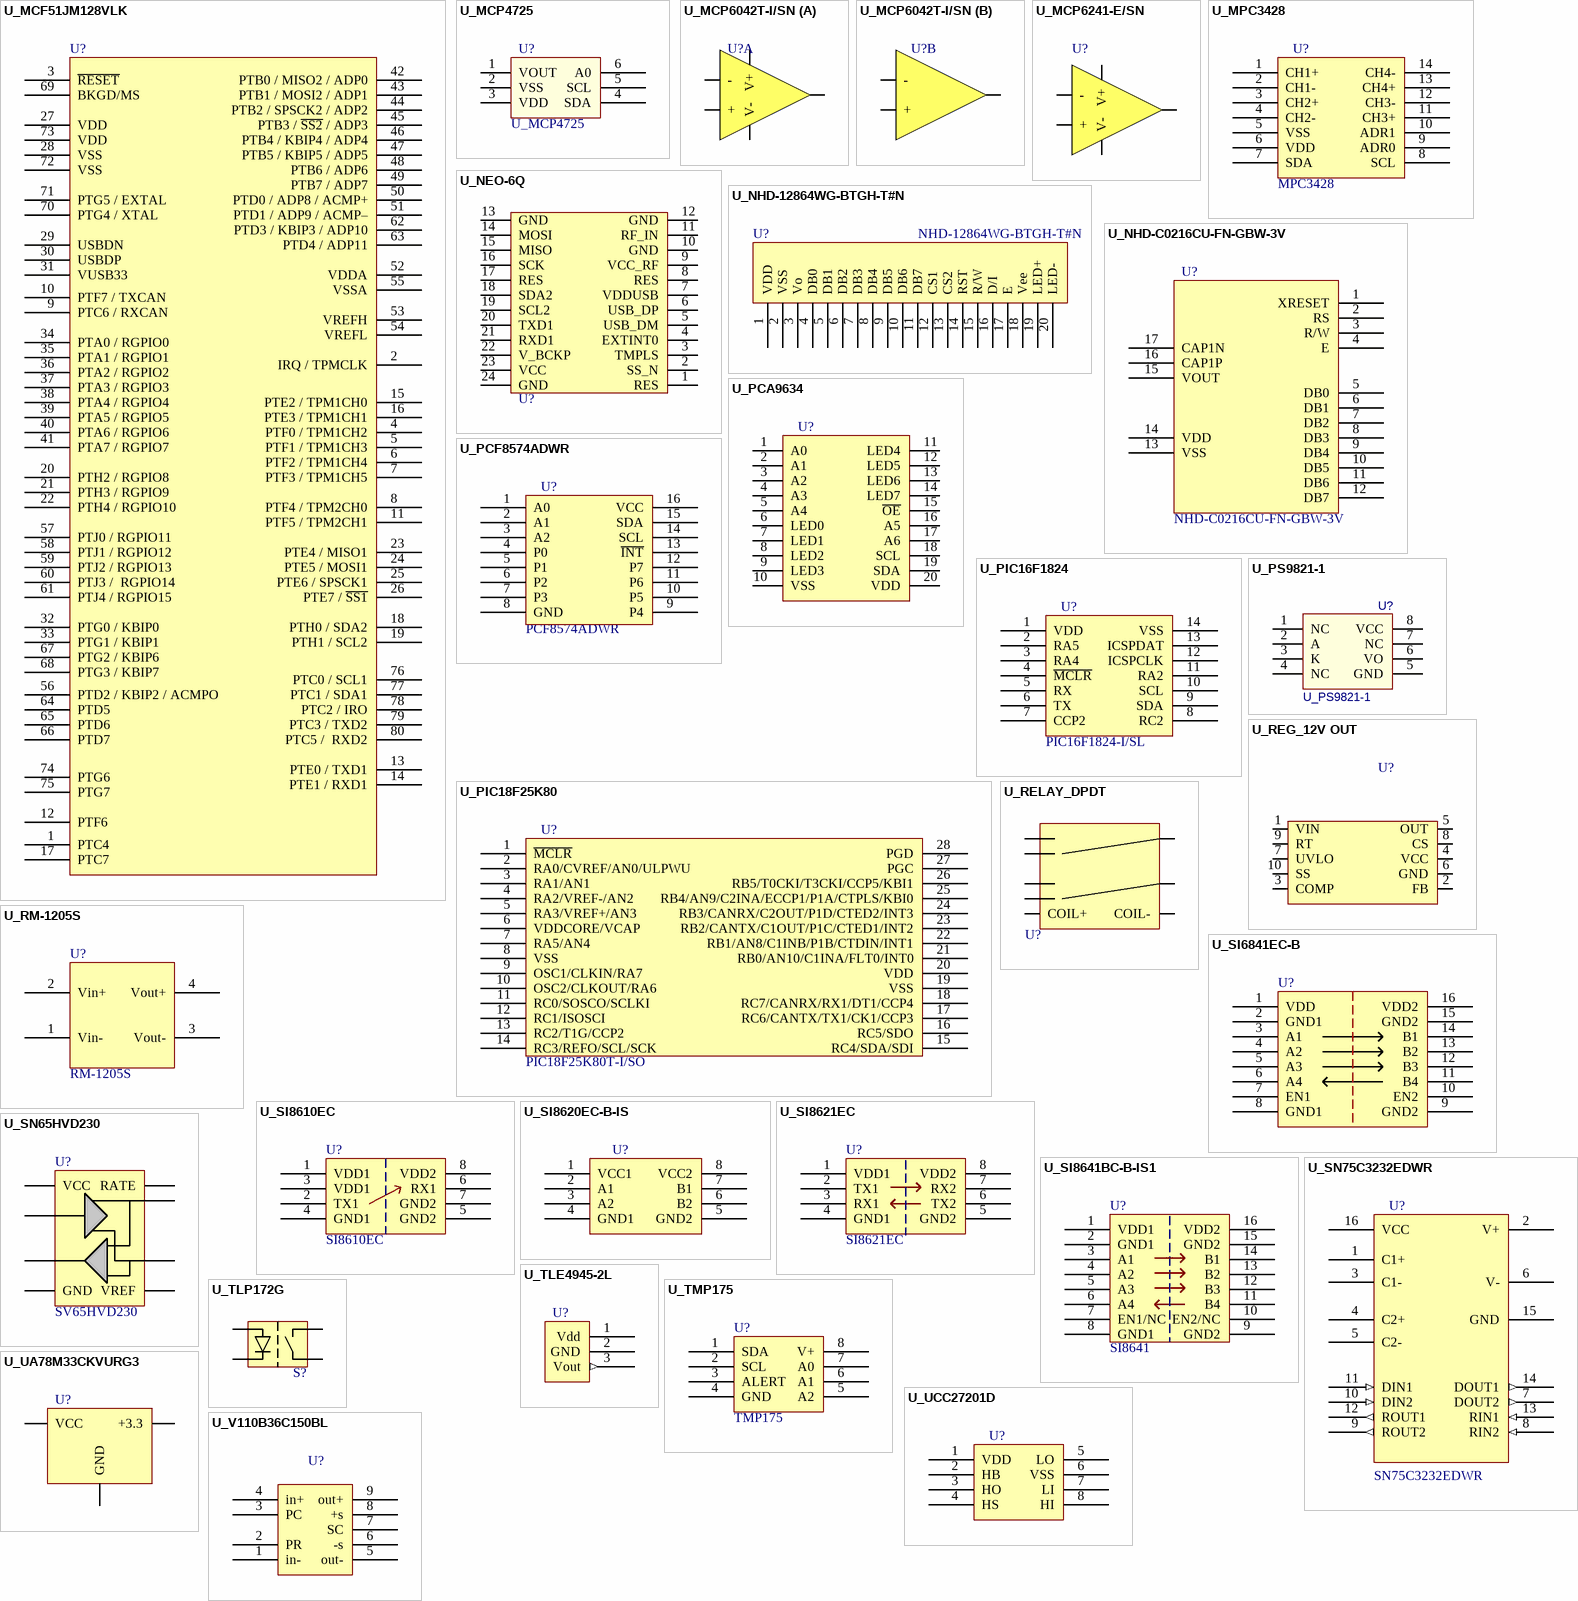
[diagram p10: symbols U_MCF51JM128VLK to U_V110B36C150BL]

## U_MCF51JM128VLK
designator U?, comment C3 Microcontroller  (value not drawn)
IC MCU 128/16K FLASH/SRAM 80LQFP; Manufacturer: Freescale; Manufacturer PN: MCF51JM128VLK-ND; SVP Creator: Jonathan Nutzmann; Package: 80-LQFP; Known Distributors: Digikey; ComponentLink1Description: Datasheet; ComponentLink1URL: http://umnsvp.dyndns.org/svn/centaurus3/datasheets/CBSB/MCF51JM128RM.pdf; Price: 0.00
footprint MCF51JM128
pins: 1 PTC4, 2 IRQ / TPMCLK, 3 ~{RESET}, 4 PTF0 / TPM1CH2, 5 PTF1 / TPM1CH3, 6 PTF2 / TPM1CH4, 7 PTF3 / TPM1CH5, 8 PTF4 / TPM2CH0, 9 PTC6 / RXCAN, 10 PTF7 / TXCAN, 11 PTF5 / TPM2CH1, 12 PTF6, 13 PTE0 / TXD1, 14 PTE1 / RXD1, 15 PTE2 / TPM1CH0, 16 PTE3 / TPM1CH1, 17 PTC7, 18 PTH0 / SDA2, 19 PTH1 / SCL2, 20 PTH2 / RGPIO8, 21 PTH3 / RGPIO9, 22 PTH4 / RGPIO10, 23 PTE4 / MISO1, 24 PTE5 / MOSI1, 25 PTE6 / SPSCK1, 26 PTE7 / ~{SS1}, 27 VDD, 28 VSS, 29 USBDN, 30 USBDP, 31 VUSB33, 32 PTG0 / KBIP0, 33 PTG1 / KBIP1, 34 PTA0 / RGPIO0, 35 PTA1 / RGPIO1, 36 PTA2 / RGPIO2, 37 PTA3 / RGPIO3, 38 PTA4 / RGPIO4, 39 PTA5 / RGPIO5, 40 PTA6 / RGPIO6, 41 PTA7 / RGPIO7, 42 PTB0 / MISO2 / ADP0, 43 PTB1 / MOSI2 / ADP1, 44 PTB2 / SPSCK2 / ADP2, 45 PTB3 / ~{SS2} / ADP3, 46 PTB4 / KBIP4 / ADP4, 47 PTB5 / KBIP5 / ADP5, 48 PTB6 / ADP6, 49 PTB7 / ADP7, 50 PTD0 / ADP8 / ACMP+, 51 PTD1 / ADP9 / ACMP–, 52 VDDA, 53 VREFH, 54 VREFL, 55 VSSA, 56 PTD2 / KBIP2 / ACMPO, 57 PTJ0 / RGPIO11, 58 PTJ1 / RGPIO12, 59 PTJ2 / RGPIO13, 60 PTJ3 /  RGPIO14, 61 PTJ4 / RGPIO15, 62 PTD3 / KBIP3 / ADP10, 63 PTD4 / ADP11, 64 PTD5, 65 PTD6, 66 PTD7, 67 PTG2 / KBIP6, 68 PTG3 / KBIP7, 69 BKGD/MS, 70 PTG4 / XTAL, 71 PTG5 / EXTAL, 72 VSS, 73 VDD, 74 PTG6, 75 PTG7, 76 PTC0 / SCL1, 77 PTC1 / SDA1, 78 PTC2 / IRO, 79 PTC3 / TXD2, 80 PTC5 /  RXD2

## U_MCP4725
designator U?
IC DAC 12BIT W/I2C SOT23A-6; SVP Creator: Jonathan Nutzmann; Datasheet: http://ww1.microchip.com/downloads/en/DeviceDoc/22039d.pdf
footprint SOT23-6
pins: 1 VOUT, 2 VSS, 3 VDD, 4 SDA, 5 SCL, 6 A0

## U_MCP6042T-I/SN
designator U?, comment IC OP AMP  (value not drawn)
IC OPAMP 1UA 1.4V DUAL R-R 8SOIC; Manufacturer: Microchip; Manufacturer PN: MCP6042T-I/SN; SVP Creator: Jonathan Nutzmann; Package: 8-SOIC; Known Distributors: Digikey; ComponentLink1Description: Datasheet; ComponentLink1URL: SVN Datasheet URL; Price: 0.97
footprint SOIC127P600X175-8N (SOIC, 8-Leads, Body 4.9x3.9mm (max), Pitch 1.27mm, IPC Medium Density)
part A pins: 1 Vo, 2 -, 3 +, 4 V-, 8 V+
part B pins: 5 +, 6 -, 7 Vo

## U_MCP6241-E/SN
designator U?, comment Short Part Description  (value not drawn)
IC OPAMP SNGL 1.8V 550KHZ 8SOIC; Manufacturer: Microchip; Manufacturer PN: MCP6241-E/SN; SVP Creator: Jonathan Nutzmann; Package: 8-SOIC; Known Distributors: Digikey; ComponentLink1Description: Datasheet; ComponentLink1URL: SVN Datasheet URL; Price: 0.36
footprint SOIC127P600X175-8N (SOIC, 8-Leads, Body 4.9x3.9mm (max), Pitch 1.27mm, IPC Medium Density)
pins: 2 -, 3 +, 4 V-, 6 Vo, 7 V+

## U_MPC3428
designator U?, comment value MPC3428  (hidden comment: MPC3428-E/SL)
IC ADC 16BIT I2C PROGBL 14-SOIC; Manufacturer: Microchip; SVP Creator: Jonathan Nutzmann; Package: SOIC-14; Known Distributors: Digikey; Manufacturer PN: MPC3428-E/SL; ComponentLink1Description: Datasheet; ComponentLink1URL: SVN Datasheet URL; Price: 3.86
footprint SOIC127P600X175-14N (PIC16F1824) (SOIC, 14-Leads, Body 8.6x3.9mm (max), Pitch 1.27mm, IPC Medium Density)
pins: 1 CH1+, 2 CH1-, 3 CH2+, 4 CH2-, 5 VSS, 6 VDD, 7 SDA, 8 SCL, 9 ADR0, 10 ADR1, 11 CH3+, 12 CH3-, 13 CH4+, 14 CH4-

## U_NEO-6Q
designator U?, comment Short Part Description  (value not drawn)
U-Blox 6 Positioning Engine; SVP Creator: Mark Newcomb; Manufacturer: U-Blox; ComponentLink1Description: http://www.abacuscity.ch/abashop?s=142&p=productdetail&sku=107; ComponentLink1URL: http://umnsvp.dyndns.org/svn/centaurus3/Hardware/datasheets/Telemetry/NEO-6.pdf; Price: $99.00
footprint NEO_6Q (UBlox NEO-6Q)
pins: 1 RES, 2 SS_N, 3 TMPLS, 4 EXTINT0, 5 USB_DM, 6 USB_DP, 7 VDDUSB, 8 RES, 9 VCC_RF, 10 GND, 11 RF_IN, 12 GND, 13 GND, 14 MOSI, 15 MISO, 16 SCK, 17 RES, 18 SDA2, 19 SCL2, 20 TXD1, 21 RXD1, 22 V_BCKP, 23 VCC, 24 GND

## U_NHD-12864WG-BTGH-T#N
designator U?, comment Manufacturer PN: NHD-12864WG-BTGH-T#N  (hidden comment: Battery Tester Display)
LCD MOD GRAPH 128X64 WH TRANSFL; Manufacturer: Newhaven Display Intl; SVP Creator: Jonathan Nutzmann; ComponentLink1Description: Datasheet; ComponentLink1URL: http://www.newhavendisplay.com/specs/NHD-12864WG-BTGH-TN.pdf; Price: 24.00
footprint NHD-12864WG-BTGH-T#N
pins: 1 VDD, 2 VSS, 3 Vo, 4 DB0, 5 DB1, 6 DB2, 7 DB3, 8 DB4, 9 DB5, 10 DB6, 11 DB7, 12 CS1, 13 CS2, 14 RST, 15 R/W, 16 D/I, 17 E, 18 Vee, 19 LED+, 20 LED-

## U_NHD-C0216CU-FN-GBW-3V
designator U?, comment Manufacturer PN: NHD-C0216CU-FN-GBW-3V  (hidden comment: Battery Tester Display)
LCD COG CHAR 2X16 NO TRANSFL; Manufacturer: Newhaven Display Intl; SVP Creator: Jonathan Nutzmann; ComponentLink1Description: Datasheet; ComponentLink1URL: http://www.newhavendisplay.com/specs/NHD-C0216CU-FN-GBW-3V.pdf; Price: 9.25
footprint NHD-C0216CU-FN-GBW-3V
pins: 1 XRESET, 2 RS, 3 R/W, 4 E, 5 DB0, 6 DB1, 7 DB2, 8 DB3, 9 DB4, 10 DB5, 11 DB6, 12 DB7, 13 VSS, 14 VDD, 15 VOUT, 16 CAP1P, 17 CAP1N

## U_PCA9634
designator U?, comment 8-BIT FM+ I2C-S LED DRIVER  (value not drawn)
Manufacurer: NXP Semiconductors; Manufacurer_PN: PCA9634PW; SVP Creator: Graham Smith; Package: TSSOP-20; ComponentLink1Description: Datasheet; ComponentLink1URL: C:\Users\graham\Desktop\centaurus3\Hardware\datasheets\F1 Steering Wheel\PCA9634.pdf
footprint SOP20
pins: 1 A0, 2 A1, 3 A2, 4 A3, 5 A4, 6 LED0, 7 LED1, 8 LED2, 9 LED3, 10 VSS, 11 LED4, 12 LED5, 13 LED6, 14 LED7, 15 ~{OE}, 16 A5, 17 A6, 18 SCL, 19 SDA, 20 VDD

## U_PCF8574ADWR
designator U?, comment PCF8574ADWR
IC I/O EXPANDER I2C 8B 16SOIC; Manufacturer: Microchip; SVP Creator: Jonathan Nutzmann; Package: SOIC-16; Known Distributors: Digikey; Manufacturer PN: PCF8574ADWR; ComponentLink1Description: Datasheet; ComponentLink1URL: SVN Datasheet URL; Price: 1.79; Value: PCF8574ADWR
pins: 1 A0, 2 A1, 3 A2, 4 P0, 5 P1, 6 P2, 7 P3, 8 GND, 9 P4, 10 P5, 11 P6, 12 P7, 13 ~{INT}, 14 SCL, 15 SDA, 16 VCC

## U_PIC16F1824
designator U?, comment PIC16F1824-I/SL
IC MCU 8BIT FLASH 14SOIC; Manufacturer: Microchip; SVP Creator: Jonathan Nutzmann; Package: SOIC-14; Known Distributors: Digikey; ComponentLink1Description: Datasheet; ComponentLink1URL: SVN Datasheet URL; Price: 1.66; Manufacturer PN: PIC16F1824-I/SL
footprint SOIC127P600X175-14N (PIC16F1824) (SOIC, 14-Leads, Body 8.6x3.9mm (max), Pitch 1.27mm, IPC Medium Density)
pins: 1 VDD, 2 RA5, 3 RA4, 4 ~{MCLR}, 5 RX, 6 TX, 7 CCP2, 8 RC2, 9 SDA, 10 SCL, 11 RA2, 12 ICSPCLK, 13 ICSPDAT, 14 VSS

## U_PIC18F25K80
designator U?, comment Manufacturer PN: PIC18F25K80T-I/SO  (hidden comment: PIC18F25K80)
MCU PIC 32KB FLASH 28SOIC; Manufacturer: Microchip; SVP Creator: Jonathan Nutzmann; Package: SOIC-28; Known Distributors: Digikey; ComponentLink1Description: Datasheet; ComponentLink1URL: SVN Datasheet URL; Price: 2.25
footprint SOIC127P1030X265-28N (SOIC, 28-Leads, Body 17.9x7.5mm (max), Pitch 1.27mm, IPC Medium Density)
pins: 1 ~{MCLR}, 2 RA0/CVREF/AN0/ULPWU, 3 RA1/AN1, 4 RA2/VREF-/AN2, 5 RA3/VREF+/AN3, 6 VDDCORE/VCAP, 7 RA5/AN4, 8 VSS, 9 OSC1/CLKIN/RA7, 10 OSC2/CLKOUT/RA6, 11 RC0/SOSCO/SCLKI, 12 RC1/ISOSCI, 13 RC2/T1G/CCP2, 14 RC3/REFO/SCL/SCK, 15 RC4/SDA/SDI, 16 RC5/SDO, 17 RC6/CANTX/TX1/CK1/CCP3, 18 RC7/CANRX/RX1/DT1/CCP4, 19 VSS, 20 VDD, 21 RB0/AN10/C1INA/FLT0/INT0, 22 RB1/AN8/C1INB/P1B/CTDIN/INT1, 23 RB2/CANTX/C1OUT/P1C/CTED1/INT2, 24 RB3/CANRX/C2OUT/P1D/CTED2/INT3, 25 RB4/AN9/C2INA/ECCP1/P1A/CTPLS/KBI0, 26 RB5/T0CKI/T3CKI/CCP5/KBI1, 27 PGC, 28 PGD

## U_PS9821-1
designator U?
One Channel Fast Optocoupler; Value: *
footprint SO-8_L (8-Pin Plastic Small Outline Integrated Circuit 1.27 mm Pitch, IPC High Density)
pins: 1 NC, 2 A, 3 K, 4 NC, 5 GND, 6 VO, 7 NC, 8 VCC

## U_REG_12V OUT
designator U?  (value not drawn)
IC BOOST/SEPIC SYNC 1A 10MSOP; Manufacturer: National Semiconductor; Manufacturer PN: LM5022MM; SVP Creator: Matt Rogge; ComponentLink1Description: datasheet; Known Distributors: Digikey; Package: 10-TFSOP; Price: 3.27; Current Rating: 1A
footprint 10-MSOP
pins: 1 VIN, 2 FB, 3 COMP, 4 VCC, 5 OUT, 6 GND, 7 UVLO, 8 CS, 9 RT, 10 SS

## U_RELAY_DPDT
designator U?, comment RELAY_DPDT_12V  (value not drawn)
RELAY GEN PURPOSE DPDT 8A 12V; Manufacturer: TE Connectivity; Manufacturer PN: RT424012F; SVP Creator: Matt Rogge; Package: custom; Known Distributors: digikey; ComponentLink1Description: datasheet; ComponentLink1URL: http://search.digikey.com/us/en/products/RT424012F/PB968-ND/1095292; Price: 2.33
footprint OMI-SH-212D,594
pins: 1 1NC, 2 1NO, 3 2NC, 4 2NO, 5 1OUT, 6 2OUT, 7 COIL+, 8 COIL-

## U_RM-1205S
designator U?  Manufacturer PN: RM-1205S  (hidden comment: *)
CONV DC/DC 0.25W SGL 5V OUT SIP4; Manufacturer: Recom Power Inc
footprint SIP4
pins: 1 Vin-, 2 Vin+, 3 Vout-, 4 Vout+

## U_SI6841EC-B
designator U?  (value not drawn)
IC ISOLATOR 4CH 3.75V 16-SOIC; Manufacturer: Silicon Labs; Manufacturer PN: SI8641EC-B-IS1
footprint SOIC16_SI8641 (SOIC, 16-Leads, Body 9.9x3.9mm (max), Pitch 1.27mm, IPC Medium Density)
pins: 1 VDD, 2 GND1, 3 A1, 4 A2, 5 A3, 6 A4, 7 EN1, 8 GND1, 9 GND2, 10 EN2, 11 B4, 12 B3, 13 B2, 14 B1, 15 GND2, 16 VDD2

## U_SI8610EC
designator U?  value SI8610EC
IC ISOLATOR 1CH 3.75KV 8-SOIC; Manufacturer: Silicon Labs; Manufacturer PN: SI8610EC-B-IS; SVP Creator: Jonathan Nutzmann; Package: SOIC-8; Known Distributors: DigiKey; ComponentLink1Description: Datasheet
footprint SOIC127P600X175-8N (SOIC, 8-Leads, Body 4.9x3.9mm (max), Pitch 1.27mm, IPC Medium Density)
pins: 1 VDD1, 2 TX1, 3 VDD1, 4 GND1, 5 GND2, 6 RX1, 7 GND2, 8 VDD2

## U_SI8620EC-B-IS
designator U?, comment Lights board current sensor  (value not drawn)
IC ISOLATOR 2CH 3.75KV 8SOIC; Manufacturer: Silicon Laboratories Inc.; Manufacturer PN: SI8620EC-B-IS; SVP Creator: Shawn Reimann; Package: 8-SOIC; Known Distributors: Digikey; ComponentLink1Description: Datasheet; ComponentLink1URL: http://www.silabs.com/products/power/isolators/Pages/Si86xx-Digital-Isolators.aspx; Price: 1.99
footprint Si86
pins: 1 VCC1, 2 A1, 3 A2, 4 GND1, 5 GND2, 6 B2, 7 B1, 8 VCC2

## U_SI8621EC
designator U?  value SI8621EC
IC ISOLATOR 2CH 3.75KV 8SOIC; Manufacturer: Silicon Labs; Manufacturer PN: SI8621EC-B-IS; SVP Creator: Jonathan Nutzmann; Package: SOIC-8; Known Distributors: DigiKey; ComponentLink1Description: Datasheet
footprint SOIC127P600X175-8N (SOIC, 8-Leads, Body 4.9x3.9mm (max), Pitch 1.27mm, IPC Medium Density)
pins: 1 VDD1, 2 TX1, 3 RX1, 4 GND1, 5 GND2, 6 TX2, 7 RX2, 8 VDD2

## U_SI8641BC-B-IS1
designator U?  value SI8641
IC ISOLATOR 4CH 3.75V 16-SOIC; Manufacturer: Silicon Labs; Manufacturer PN: SI8641BC-B-IS1; SVP Creator: Katie Moenkhaus; Package: SOIC-16; Known Distributors: DigiKey; ComponentLink1Description: Datasheet
footprint SOIC127P600X175-16N (SOIC, 16-Leads, Body 10.0x4.0mm (max), Pitch 1.27mm, IPC Medium Density)
pins: 1 VDD1, 2 GND1, 3 A1, 4 A2, 5 A3, 6 A4, 7 EN1/NC, 8 GND1, 9 GND2, 10 EN2/NC, 11 B4, 12 B3, 13 B2, 14 B1, 15 GND2, 16 VDD2

## U_SN65HVD230
designator U?  value SV65HVD230
CAN Transciever; Manufacturer: Texas Insturments; SVP Creator: Jonathan Nutzmann; Package: SOIC-8; Known Distributors: DigiKey; Manufacturer PN: SV65HVD230; HelpURL: http://umnsvp.dyndns.org/svn/centaurus2/datasheets/Common Board/sn65hvd251.pdf; ComponentLink1URL: http://umnsvp.dyndns.org/svn/centaurus2/datasheets/Common Board/sn65hvd251.pdf; ComponentLink1Description: Datasheet
footprint SOIC127P600-8N (SOIC, 8-Leads, Body 4.9x3.9mm, Pitch 1.27mm, IPC Medium Density)
pins: 1 TXD, 2 GND (power), 3 VCC (power), 4 RXD, 5 VREF, 6 CANL, 7 CANH, 8 RATE

## U_SN75C3232EDWR
designator U?  value SN75C3232EDWR  (hidden comment: U_SN75C3232EDWR)
IC LINE DRVR/RCVR RS232 16-SOIC; Manufacturer: TI; Manufacturer PN: TRS3232EIDR; SVP Creator: Jonathan Nutzmann; Known Distributors: Digikey; ComponentLink1Description: Datasheet
footprint SOIC127P600X175-16N (SOIC, 16-Leads, Body 10.0x4.0mm (max), Pitch 1.27mm, IPC Medium Density)
pins: 1 C1+, 2 V+, 3 C1-, 4 C2+, 5 C2-, 6 V-, 7 DOUT2 (out), 8 RIN2 (in), 9 ROUT2 (out), 10 DIN2 (in), 11 DIN1 (in), 12 ROUT1 (out), 13 RIN1 (in), 14 DOUT1 (out), 15 GND, 16 VCC

## U_TLE4945-2L
designator U?, comment Hall Sensor  (value not drawn)
IC SWITCH BIPOLAR SSO-3-2; Manufacturer: Infineon; Manufacturer PN: TLE4945-2L; SVP Creator: Chad Furey; Package: 3-SIP, SSO-3-02; Known Distributors: Digikey; ComponentLink1Description: http://www.infineon.com/dgdl/Data_Sheet_TLE49x5L_V1_2.pdf?folderId=db3a304412b407950112b408e8c90004&fileId=db3a304412b407950112b4090265005b; ComponentLink1URL: SVN Datasheet URL; HelpURL: http://search.digikey.com/scripts/DkSearch/dksus.dll?Detail&name=TLE4945-2LINCT-ND; Price: 1.5
footprint Hall Sensor S3 (3 pin Hall sensor pad for mounting off PCB edge)
footprint Hall_Board bent (Uber Motor Halls with bent tips)
pins: 1 Vdd (power) "2.4v - 5.5v", 2 GND (power), 3 Vout (out) "100mV output"

## U_TLP172G
designator S?, comment TLP172G  (value not drawn)
PHOTOCPLR RELAY MOSFET-OUT 4-SOP; Manufacturer: Toshiba; Package: 4-SOP; Known Distributors: Digikey; Manufacturer PN: TLP172G; ComponentLink1Description: Datasheet
footprint TLP172G (SOP, 4-Leads, Body 4.2x4.7mm (max), Pitch 2.54mm, IPC Medium Density)
pins: 1, 2, 3, 4

## U_TMP175
designator U?  Manufacturer PN: TMP175  (hidden comment: U_TMP175)
I2C Temperature Sensor SOIC-8; Manufacturer: Texas Insturments; SVP Creator: Jonathan Nutzmann; Package: SOIC-8; HelpURL: http://umnsvp.dyndns.org/svn/centaurus2/datasheets/; ComponentLink1URL: http://umnsvp.dyndns.org/svn/centaurus2/datasheets/; ComponentLink1Description: Datasheet
footprint SOIC127P600X175-8N (TMP175) (SOIC, 8-Leads, Body 5.0x4.0mm (max), Pitch 1.27mm, IPC Medium Density)
pins: 1 SDA, 2 SCL, 3 ALERT, 4 GND, 5 A2, 6 A1, 7 A0, 8 V+

## U_UA78M33CKVURG3
designator U?, comment UA78M33CKVURG3  (value not drawn)
IC POS VOLT REG FX 3.3V TO-252; Manufacturer: TI; SVP Creator: Brett Paulsen; Known Distributors: Digikey; Manufacturer PN: UA78M33CKVURG3; ComponentLink1Description: Datasheet; ComponentLink1URL: SVN Datasheet URL; Price: 0.72
footprint DPAK - JN
pins: 1 VCC, 2 GND, 3 +3.3

## U_UCC27201D
designator U?, comment Lights Gate Driver  (value not drawn)
IC DVR HIGH/LOW SIDE 3A 8-SOIC; Manufacturer: Texas Instruments; Manufacturer PN: 296-21435-5-ND; SVP Creator: Thomas Daede; Package: 8-SOIC; Known Distributors: Digikey; ComponentLink1Description: Datasheet; ComponentLink1URL: SVN Datasheet URL; HelpURL: http://focus.ti.com/lit/ds/symlink/ucc27200.pdf; Price: 4.26
footprint SOIC127P600X175-8N (TMP175) (SOIC, 8-Leads, Body 5.0x4.0mm (max), Pitch 1.27mm, IPC Medium Density)
pins: 1 VDD, 2 HB, 3 HO, 4 HS, 5 LO, 6 VSS, 7 LI, 8 HI

## U_V110B36C150BL
designator U?  (value not drawn)
Vicor 110V to 36 V Mini Family; SVP Creator: Evan Sundry; Known Distributors: Vicor; Manufacturer: Vicor; Manufacturer PN: V110B36C150BL; HelpURL: http://umnsvp.dyndns.org/svn/centaurus2/datasheets/Lights/; ComponentLink1URL: http://umnsvp.dyndns.org/svn/centaurus2/datasheets/Lights/; ComponentLink1Description: Datasheet
footprint VI-J00 (VI-J00 110 to 5)
pins: 1 in-, 2 PR, 3 PC, 4 in+, 5 out-, 6 -s, 7 SC, 8 +s, 9 out+

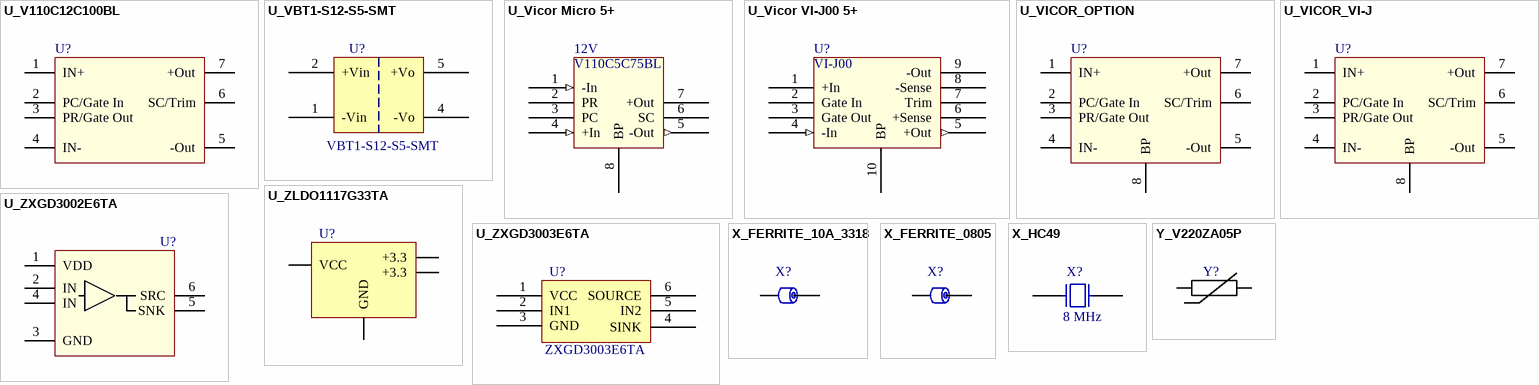
[diagram p11: symbols U_V110C12C100BL to Y_V220ZA05P]

## U_V110C12C100BL
designator U?, comment V110C12C100BL  (value not drawn)
Vicor Micro 110 to 12V; SVP Creator: Jonathan Nutzmann; Package: MODULE; Known Distributors: Vicor; Manufacturer: Vicor; Manufacturer PN: http://cdn.vicorpower.com/documents/datasheets/ds_110vin-micro-family.pdf; ComponentLink1URL: http://cdn.vicorpower.com/documents/datasheets/ds_110vin-micro-family.pdf; ComponentLink1Description: Datasheet
footprint Vicor_Micro
pins: 1 IN+, 2 PC/Gate In "Primary control", 3 PR/Gate Out, 4 IN-, 5 -Out, 6 SC/Trim, 7 +Out

## U_VBT1-S12-S5-SMT
designator U?  Manufacturer PN: VBT1-S12-S5-SMT
CONVERTER DC/DC 5V OUT 1W; Manufacturer: CUI Inc; SVP Creator: Katie Moenkhaus; Package: 8-SMD; Known Distributors: Digikey; ComponentLink1Description: Datasheet; ComponentLink1URL: SVN Datasheet URL; Price: 5.54
footprint VBT1-SMT (SOP, 8-Leads, Body 12.7x7.5mm (max), Pitch 2.54mm, IPC Medium Density)
pins: 1 -Vin, 2 +Vin, 4 -Vo, 5 +Vo

## U_Vicor Micro 5+
designator 12V
110V to 5V converter; Manufacturer: Vicor; Manufacturer PN: V110C5C75BL; SVP Creator: Danny Retzlaff; Known Distributors: Vicor; HelpURL: http://cdn.vicorpower.com/documents/applications_manual/fas_trak_apps_manual.pdf; ComponentLink1URL: http://cdn.vicorpower.com/documents/datasheets/ds_110vin-micro-family.pdf; ComponentLink1Description: Datasheet
footprint V110C5C75BL
pins: 1 -In (in), 2 PR "Primary control", 3 PC, 4 +In (in), 5 -Out (out), 6 SC, 7 +Out, 8 BP "Baseplate"

## U_Vicor VI-J00 5+
designator U?
110V to 5V converter VI-J00 series; Manufacturer: Vicor; SVP Creator: Danny Retzlaff; Known Distributors: Vicor; HelpURL: http://cdn.vicorpower.com/documents/applications_manual/DesignGuideAppsManual_200J00.pdf; ComponentLink1URL: http://cdn.vicorpower.com/documents/datasheets/ds_vi-j00.pdf; ComponentLink1Description: Datasheet
footprint VI-J00 (VI-J00 110 to 5)
pins: 1 +In, 2 Gate In "Primary control", 3 Gate Out, 4 -In (in), 5 +Out (out), 6 +Sense, 7 Trim, 8 -Sense, 9 -Out, 10 BP "Baseplate"
text: VI-J00

## U_VICOR_OPTION
designator U?
Vicor Mini, Micro, or VI-J; SVP Creator: Nate Bolyard; Known Distributors: Vicor; Manufacturer: Vicor; HelpURL: http://cdn.vicorpower.com/documents/applications_manual/fas_trak_apps_manual.pdf; ComponentLink1URL: http://cdn.vicorpower.com/documents/datasheets/ds_110vin-micro-family.pdf; ComponentLink1Description: Datasheet
footprint Vicor_choice
pins: 1 IN+, 2 PC/Gate In "Primary control", 3 PR/Gate Out, 4 IN-, 5 -Out, 6 SC/Trim, 7 +Out, 8 BP "Baseplate"

## U_VICOR_VI-J
designator U?
VI-J; Manufacturer: Vicor; SVP Creator: Brett Paulsen; Known Distributors: Vicor; HelpURL: http://cdn.vicorpower.com/documents/applications_manual/fas_trak_apps_manual.pdf; ComponentLink1URL: http://cdn.vicorpower.com/documents/datasheets/ds_110vin-micro-family.pdf; ComponentLink1Description: Datasheet
footprint VICOR_VI-Jxx
pins: 1 IN+, 2 PC/Gate In "Primary control", 3 PR/Gate Out, 4 IN-, 5 -Out, 6 SC/Trim, 7 +Out, 8 BP "Baseplate"

## U_ZLDO1117G33TA
designator U?, comment ZLDO1117G33TA  (value not drawn)
IC REG LDO 1A 3.3V SOT223-3; Manufacturer: Diodes Inc; SVP Creator: Jonathan Nutzmann; Known Distributors: Digikey; Manufacturer PN: ZLDO1117G33TA; ComponentLink1Description: Datasheet; ComponentLink1URL: SVN Datasheet URL; Price: 0.61
footprint SOT223-3 (SOT223, 4-Leads, Body 6.7x7.3mm (max), Pitch 2.30mm, IPC Medium Density)
pins: 1 GND, 2 +3.3, 3 VCC, 4 +3.3

## U_ZXGD3002E6TA
designator U?, comment ZXGD3002E6TA  (value not drawn)
IC GATE DRVR IGBT/MOSFET SOT23-6; Manufacturer: Diodes; SVP Creator: Jonathan Nutzmann; Package: SOT-23-6; Known Distributors: Digikey; Manufacturer PN: ZXGD3002E6TA; Price: .88; ComponentLink1Description: Datasheet
footprint ZXGD3002E6TA (SOT23, 6-Leads, Body 3.1x3.2mm (max), Pitch 0.95mm, IPC Medium Density)
pins: 1 VDD, 2 IN, 3 GND, 4 IN, 5 SNK, 6 SRC

## U_ZXGD3003E6TA
designator U?, comment ZXGD3003E6TA
IC GATE DRVR IGBT/MOSFET SOT23-6; Manufacturer: Diodes/Zetex; SVP Creator: Jonathan Nutzmann; Package: SOIC-8; Manufacturer PN: ZXGD3003E6TA; ComponentLink1Description: Datasheet; ComponentLink1URL: http://www.diodes.com/datasheets/ZXGD3003E6.pdf; Price: 0.59
footprint SOT23-6
pins: 1 VCC, 2 IN1, 3 GND, 4 SINK, 5 IN2, 6 SOURCE

## X_FERRITE_10A_3318
designator X?, comment Ferrite Bead  (value not drawn)
FERRITE 10A 115 OHMS SMD; Manufacturer: Laird-Signal Integrity Products; Manufacturer PN: 28F0181-1SR-10; Package: 3318; Known Distributors: Digikey; Current Rating: 10A
footprint 28F0181-1SR-10
pins: 1, 2

## X_FERRITE_0805
designator X?, comment Ferrite Bead  (value not drawn)
FERRITE CHIP BEAD 600 OHM SMD; Manufacturer: TDK Corp; Manufacturer PN: MPZ2012S601A; SVP Creator: Brett Paulsen; Current Rating: 2A; Package: 0805; Known Distributors: Digikey
footprint 0805 (0805 Resistor/Capacitor)
pins: 1, 2

## X_HC49
designator X?, comment value 8 MHz  (hidden comment: HC49)
CRYSTAL 8.00 MHZ 20PF 49US; Manufacturer: ECS; Manufacturer PN: ECS-80-20-4X; SVP Creator: Jonathan Nutzmann; Load Capacitance: 20pF; Known Distributor: Digikey; Package: HC49/US; ComponentLink1Description: Datasheet
footprint HC-49
pins: 1, 2

## Y_V220ZA05P
designator Y?  (value not drawn)
VARISTOR 220V 6J 5MM RADIAL ZA; Manufacturer: LittleFuse; SVP Creator: Jonathan Nutzmann; Manufacturer PN: V220ZA05P; Known Distributor: Digikey; ComponentLink1Description: Datasheet; ComponentLink1URL: http://www.littelfuse.com/data/en/Data_Sheets/Littelfuse_MOV_ZA.pdf
footprint V220ZA05P
pins: 1, 2